# EAGLE library part 74HCT245 (library Ai_IC)
Octal BUS TRANSCEIVER, 3-state
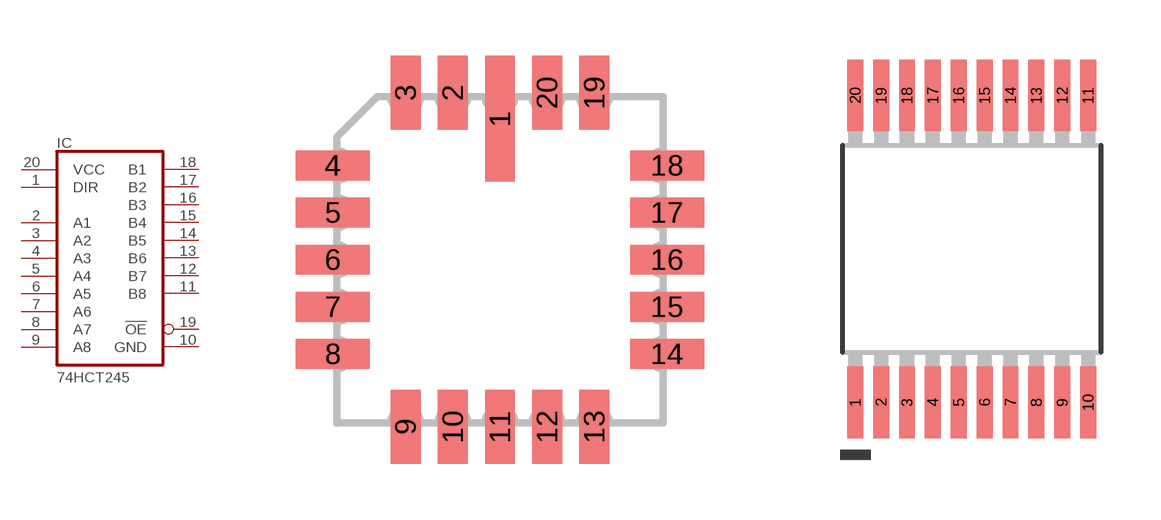
[diagram p12: symbol with the pads of LCC20; footprints LCC20, SSOP20]

Designator prefix IC

## 74HCT245FK  [LCC20]
1  DIR  in
2  A1
3  A2
4  A3
5  A4
6  A5
7  A6
8  A7
9  A8
10  GND  pwr
11  B8
12  B7
13  B6
14  B5
15  B4
16  B3
17  B2
18  B1
19  !OE  in
20  VCC  pwr

## 74HCT245MTC  [SSOP20]
Pads as for LCC20

## Footprint LCC20 (pad centres in mm)
Leadless Chip Carrier Ceramic Package
smd 0.8 x 3.4: 1 0,3.8
smd 0.8 x 2: 2 -1.27,4.5; 3 -2.54,4.5; 9 -2.54,-4.5; 10 -1.27,-4.5; 11 0,-4.5; 12 1.27,-4.5; 13 2.54,-4.5; 19 2.54,4.5; 20 1.27,4.5
smd 2 x 0.8: 4 -4.5,2.54; 5 -4.5,1.27; 6 -4.5,0; 7 -4.5,-1.27; 8 -4.5,-2.54; 14 4.5,-2.54; 15 4.5,-1.27; 16 4.5,0; 17 4.5,1.27; 18 4.5,2.54

## Footprint SSOP20 (pad centres in mm)
smd 0.4 x 1.8: 1 -2.925,-3.858; 2 -2.275,-3.858; 3 -1.625,-3.858; 4 -0.975,-3.858; 5 -0.325,-3.858; 6 0.325,-3.858; 7 0.975,-3.858; 8 1.625,-3.858; 9 2.275,-3.858; 10 2.925,-3.858; 11 2.925,3.858; 12 2.275,3.858; 13 1.625,3.858; 14 0.975,3.858; 15 0.325,3.858; 16 -0.325,3.858; 17 -0.975,3.858; 18 -1.625,3.858; 19 -2.275,3.858; 20 -2.925,3.858